# EAGLE library part CAM-M8Q (library elements)
CAM‑M8 The CAM‑M8 modules are standalone GNSS antenna modules featuring the high performance u-blox M8 concurrent GNSS engine with reception of GPS, GLONASS, BeiDou and QZSS signals. Available in an industry standard form factor in leadless chip carrier (LCC) packages, it is easy to integrate and combines exceptional positioning performance with highly flexible power, design, and connectivity options. SMT pads allow fully automated assembly with standard pick & place and reflow-soldering equipment for cost-efficient, high-volume production enabling short time-to-market. datasheet: https://www.u-blox.com/sites/default/files/CAM-M8Q_DataSheet_%28UBX-13004081%29.pdf hw guide: https://www.u-blox.com/sites/default/files/CAM-M8_HardwareIntegrationManual_%28UBX-14000014%29.pdf
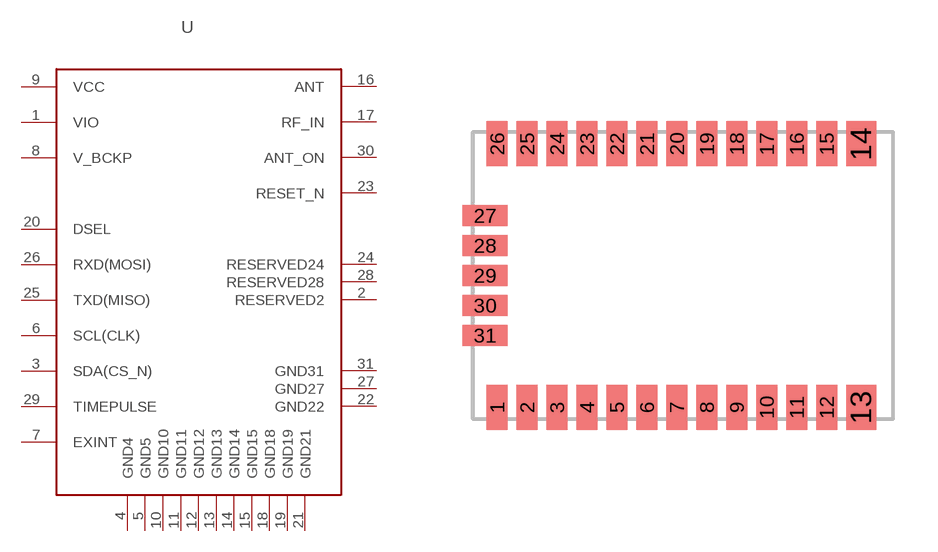
[diagram p4: symbol with the pads of CAM-M8Q; footprint CAM-M8Q]

Designator prefix -

## CAM-M8Q  [CAM-M8Q]
1  VIO
2  RESERVED2
3  SDA(CS_N)
4  GND4
5  GND5
6  SCL(CLK)
7  EXINT
8  V_BCKP
9  VCC
10  GND10
11  GND11
12  GND12
13  GND13
14  GND14
15  GND15
16  ANT
17  RF_IN
18  GND18
19  GND19
20  DSEL
21  GND21
22  GND22
23  RESET_N
24  RESERVED24
25  TXD(MISO)
26  RXD(MOSI)
27  GND27
28  RESERVED28
29  TIMEPULSE
30  ANT_ON
31  GND31

## Footprint CAM-M8Q (pad centres in mm)
smd 0.7 x 1.5: 1 -6.2,-4.4; 2 -5.2,-4.4; 3 -4.2,-4.4; 4 -3.2,-4.4; 5 -2.2,-4.4; 6 -1.2,-4.4; 7 -0.2,-4.4; 8 0.8,-4.4; 9 1.8,-4.4; 10 2.8,-4.4; 11 3.8,-4.4; 12 4.8,-4.4; 15 4.8,4.4; 16 3.8,4.4; 17 2.8,4.4; 18 1.8,4.4; 19 0.8,4.4; 20 -0.2,4.4; 21 -1.2,4.4; 22 -2.2,4.4; 23 -3.2,4.4; 24 -4.2,4.4; 25 -5.2,4.4; 26 -6.2,4.4
smd 1 x 1.5: 13 5.95,-4.4; 14 5.95,4.4
smd 1.5 x 0.7: 27 -6.6,2; 28 -6.6,1; 29 -6.6,0; 30 -6.6,-1; 31 -6.6,-2